# Altium schematic symbol library mix.SchLib: 31 symbols
Pins are listed as number, name and electrical type; pins without a type are passive.

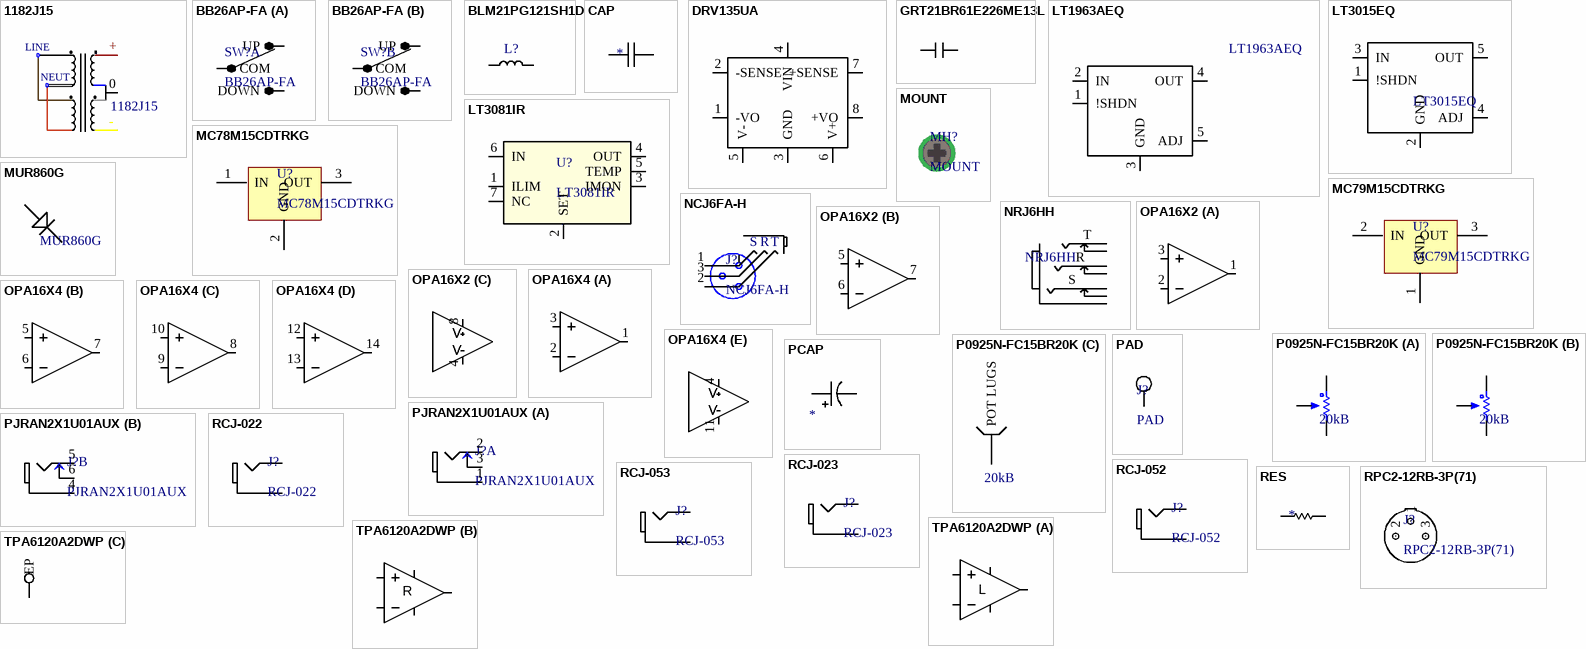
[diagram p0: symbols 1182J15 to TPA6120A2DWP]

## 1182J15
designator T?
VAC Primary: 117/234; VAC Secondary: 15/30; VA: 30
footprint 1182J15 (toroid); pin to pad 0>0V +>-VAC ->+VAC
pins: 0, +, -
text: LINE; NEUT

## BB26AP-FA
designator SW?
footprint BB26AP-FA
part A pins: 1 DOWN, 2 COM, 3 UP
part B pins: 4 DOWN, 5 COM, 6 UP

## BLM21PG121SH1D
designator L?  (value not drawn)
footprint 0805
pins: 1, 2

## CAP
designator C?
footprint 0805
simulation model C
pins: 1, 2

## DRV135UA
designator *, comment DRV135  (value not drawn)
footprint SOIC127P600X175-8M (SOIC, 14-Leads, Body 8.65x3.90mm, Pitch 1.27mm, IPC Low Density)
pins: 1 -VO, 2 -SENSE, 3 GND, 4 VIN, 5 V- (power), 6 V+ (power), 7 +SENSE, 8 +VO

## GRT21BR61E226ME13L
designator C?, comment 22u  (value not drawn)
footprint 0805
pins: 1, 2

## LT1963AEQ
designator U?
LT1963A Series - 1.5A, Low Noise, Fast Transient Response LDO Regulators; MP: LT1963AEQ#TRPBF; MF: Linear Technology; Digi-Key_Part_Number: LT1963AEQ#TRPBFCT-ND; SnapEDA_Link: https://www.snapeda.com/parts/LT1963AEQ%23TRPBF/Linear%20Technology/Analog%20Devices/view-part/?ref=snap; Digi-Key_Purchase_URL: https://www.digikey.com/product-detail/en/linear-technology-analog-devices/LT1963AEQ-TRPBF/LT1963AEQ-TRPBFCT-ND/3830651?utm_source=snapeda&utm_medium=aggregator&utm_campaign=symbol; Package: TO-263 Linear Technology; Value: *
footprint DDPAK-5_Q
pins: 1 !SHDN, 2 IN, 3 GND (power), 4 OUT, 5 ADJ

## LT3015EQ
designator U?
footprint DDPAK-5_Q
pins: 1 !SHDN, 2 GND (power), 3 IN, 4 ADJ, 5 OUT

## LT3081IR
designator U?
Imported; Manufacturer_Part_Number: LT3081IR#PBF; Built_By: EMA_UL_Team; Vendor: Linear Technology; RefDes: RefDes; Type: DEV; Value: Value
footprint DDPAK-7
pins: 1 ILIM, 2 SET, 3 IMON, 4 OUT, 5 TEMP, 6 IN, 7 NC

## MC78M15CDTRKG
designator U?
footprint DPAK-3
pins: 1 IN, 2 GND, 3 OUT

## MC79M15CDTRKG
designator U?
footprint DPAK-3
pins: 1 GND, 2 IN, 3 OUT

## MOUNT
designator MH?
footprint MOUNT

## MUR860G
designator D?
footprint TO-220-2
pins: 1 Cathode, 3 Anode

## NCJ6FA-H
designator J?
footprint NCJ6FA-H
pins: 1, 2, 3
text: S; R; T

## NRJ6HH
designator J?
footprint NRJ6HH
pins: R, RN, S, SN, T, TN

## OPA16X2
designator U?  (value not drawn)
simulation model Model Name (Model Description)
footprint SOIC127P600X175-8M (SOIC, 14-Leads, Body 8.65x3.90mm, Pitch 1.27mm, IPC Low Density)
part A pins: 1 OUT A, 2 -IN A, 3 +IN A
part B pins: 5 IN B+, 6 IN B-, 7 OUT B
part C pins: 4 V-, 8 V+

## OPA16X4
designator U?  (value not drawn)
footprint SOIC127P600X175-14M (SOIC, 14-Leads, Body 8.65x3.90mm, Pitch 1.27mm, IPC Low Density)
simulation model Model Name (Model Description)
part A pins: 1 OUT A, 2 -IN A, 3 +IN A
part B pins: 5 IN B+, 6 IN B-, 7 OUT B
part C pins: 8 OUT C, 9 IN C-, 10 IN C+
part D pins: 12 IN D+, 13 IN D-, 14 OUT D
part E pins: 4 V+, 11 V-

## P0925N-FC15BR20K
designator R?, comment 20kB
P0925N-FC15AR10K
footprint P0925N-FC15AR10K
part A pins: 1, 2, 3
part B pins: 4, 5, 6
part C pins: 7 POT LUGS

## PAD
designator J?
footprint PAD
pins: 1

## PCAP
designator C?
Value: *
pins: 1, 2

## PJRAN2X1U01AUX
designator J?
footprint PJRAN2X1U01AUX
part A pins: 1, 2, 3
part B pins: 4, 5, 6

## RCJ-022
designator J?
footprint RCJ-02
pins: 1, 2

## RCJ-023
designator J?
footprint RCJ-02
pins: 1, 2

## RCJ-052
designator J?
footprint RCJ-052
pins: 1, 2

## RCJ-053
designator J?
footprint RCJ-053
pins: 1, 2

## RES
designator R?
footprint 0805
simulation model R
pins: 1, 2

## RPC2-12RB-3P(71)
designator J?
footprint RPC2-12RB-3P(71)
pins: 1, 2, 3

## TPA6120A2DWP
designator U?  (value not drawn)
footprint SOIC127P1040X265_HS-21M (SOIC, 20-Leads, Body 12.83x7.52mm, Pitch 1.27mm, Thermal Pad 3.81x2.79mm, IPC Low Density)
part A pins: 1 LV-, 2 LOUT, 3 LV+, 4 LIN+, 5 LIN-
part B pins: 16 RIN-, 17 RIN+, 18 RV+, 19 ROUT, 20 RV-
part C pins: 21 EP
part A text: L
part B text: R

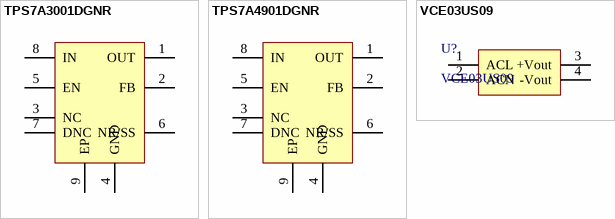
[diagram p1: symbols TPS7A3001DGNR to VCE03US09]

## TPS7A3001DGNR
designator U?, comment TPS7A3001  (value not drawn)
footprint TSOP65P490X110_HS-9L (TSOP, 8-Leads, Body 3.00x3.00mm, Pitch 0.65mm, Thermal Pad 1.89x1.57mm, IPC High Density)
pins: 1 OUT, 2 FB, 3 NC, 4 GND, 5 EN, 6 NR/SS, 7 DNC, 8 IN, 9 EP

## TPS7A4901DGNR
designator U?, comment TPS7A4901  (value not drawn)
footprint TSOP65P490X110_HS-9L (TSOP, 8-Leads, Body 3.00x3.00mm, Pitch 0.65mm, Thermal Pad 1.89x1.57mm, IPC High Density)
pins: 1 OUT, 2 FB, 3 NC, 4 GND, 5 EN, 6 NR/SS, 7 DNC, 8 IN, 9 EP

## VCE03US09
designator U?
footprint VCE03US09
pins: 1 ACL, 2 ACN, 3 +Vout, 4 -Vout